# Altium integrated library WE-CFWI Coupled Flatwire Inductor.IntLib: 7 symbols
Pins are listed as number, name and electrical type; pins without a type are passive.

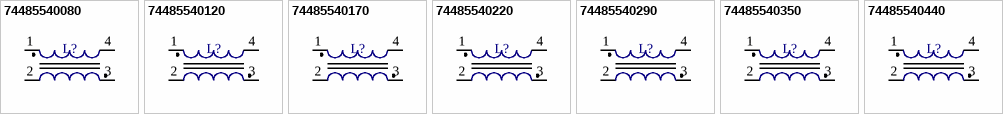
[diagram p0: symbols 74485540080 to 74485540440]

## 74485540080
designator L?
Coupled Flatwire Inductor WE-CFWI, L=0.8 µH; PartNumber: 74485540080; Inductance: 0.8 µH; PackageReference: WE-CFWI 1310; ComponentLink1Description: Manufacturer URL; ComponentLink1URL: http://www.we-online.com; ComponentLink2Description: Datasheet; ComponentLink2URL: http://www.we-online.de/katalog/media/pdf/74485540080.pdf
footprint WE-CFWI 1310 (Chip Inductor, 4-Leads, Body 15.5x13.2mm)
pins: 1, 2, 3, 4

## 74485540120
designator L?
Coupled Flatwire Inductor WE-CFWI, L=1.2 µH; PartNumber: 74485540120; Inductance: 1.2 µH; PackageReference: WE-CFWI 1310; ComponentLink1Description: Manufacturer URL; ComponentLink1URL: http://www.we-online.com; ComponentLink2Description: Datasheet; ComponentLink2URL: http://www.we-online.de/katalog/media/pdf/74485540120.pdf
footprint WE-CFWI 1310 (Chip Inductor, 4-Leads, Body 15.5x13.2mm)
pins: 1, 2, 3, 4

## 74485540170
designator L?
Coupled Flatwire Inductor WE-CFWI, L=1.7 µH; PartNumber: 74485540170; Inductance: 1.7 µH; PackageReference: WE-CFWI 1310; ComponentLink1Description: Manufacturer URL; ComponentLink1URL: http://www.we-online.com; ComponentLink2Description: Datasheet; ComponentLink2URL: http://www.we-online.de/katalog/media/pdf/74485540170.pdf
footprint WE-CFWI 1310 (Chip Inductor, 4-Leads, Body 15.5x13.2mm)
pins: 1, 2, 3, 4

## 74485540220
designator L?
Coupled Flatwire Inductor WE-CFWI, L=2.2 µH; PartNumber: 74485540220; Inductance: 2.2 µH; PackageReference: WE-CFWI 1310; ComponentLink1Description: Manufacturer URL; ComponentLink1URL: http://www.we-online.com; ComponentLink2Description: Datasheet; ComponentLink2URL: http://www.we-online.de/katalog/media/pdf/74485540220.pdf
footprint WE-CFWI 1310 (Chip Inductor, 4-Leads, Body 15.5x13.2mm)
pins: 1, 2, 3, 4

## 74485540290
designator L?
Coupled Flatwire Inductor WE-CFWI, L=2.9 µH; PartNumber: 74485540290; Inductance: 2.9 µH; PackageReference: WE-CFWI 1310; ComponentLink1Description: Manufacturer URL; ComponentLink1URL: http://www.we-online.com; ComponentLink2Description: Datasheet; ComponentLink2URL: http://www.we-online.de/katalog/media/pdf/74485540290.pdf
footprint WE-CFWI 1310 (Chip Inductor, 4-Leads, Body 15.5x13.2mm)
pins: 1, 2, 3, 4

## 74485540350
designator L?
Coupled Flatwire Inductor WE-CFWI, L=3.5 µH; PartNumber: 74485540350; Inductance: 3.5 µH; PackageReference: WE-CFWI 1310; ComponentLink1Description: Manufacturer URL; ComponentLink1URL: http://www.we-online.com; ComponentLink2Description: Datasheet; ComponentLink2URL: http://www.we-online.de/katalog/media/pdf/74485540350.pdf
footprint WE-CFWI 1310 (Chip Inductor, 4-Leads, Body 15.5x13.2mm)
pins: 1, 2, 3, 4

## 74485540440
designator L?
Coupled Flatwire Inductor WE-CFWI, L=4.4 µH; PartNumber: 74485540440; Inductance: 4.4 µH; PackageReference: WE-CFWI 1310; ComponentLink1Description: Manufacturer URL; ComponentLink1URL: http://www.we-online.com; ComponentLink2Description: Datasheet; ComponentLink2URL: http://www.we-online.de/katalog/media/pdf/74485540440.pdf
footprint WE-CFWI 1310 (Chip Inductor, 4-Leads, Body 15.5x13.2mm)
pins: 1, 2, 3, 4